# EAGLE library part TLW-124-06-T-S (library SAMTEC-Txx_By_element14_Batch_1)
LOW PROFILE HEADER
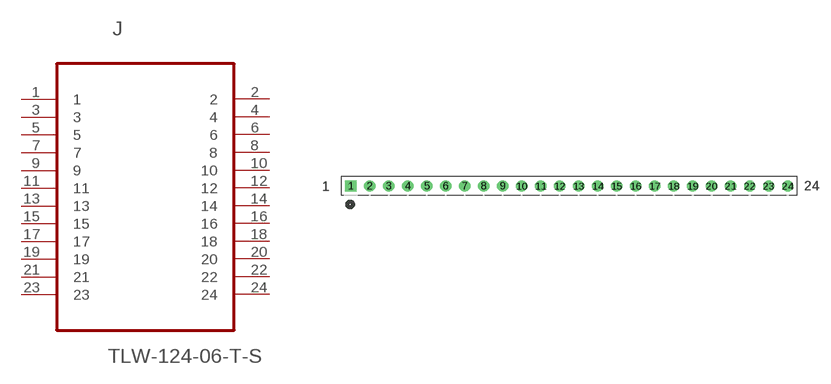
[diagram p286: symbol with the pads of SAMTEC_TLW-124-06-T-S; footprint SAMTEC_TLW-124-06-T-S]

Designator prefix J

## TLW-124-06-T-S (MPN: TLW-124-06-T-S; OC_FARNELL: -; OC_NEWARK: 12P0547; PACKAGE: LOW PROFILE HEADER, SINGLE ROW, 24 way; SUPPLIER: SAMTEC)  [SAMTEC_TLW-124-06-T-S]
1  1  pas
2  2  pas
3  3  pas
4  4  pas
5  5  pas
6  6  pas
7  7  pas
8  8  pas
9  9  pas
10  10  pas
11  11  pas
12  12  pas
13  13  pas
14  14  pas
15  15  pas
16  16  pas
17  17  pas
18  18  pas
19  19  pas
20  20  pas
21  21  pas
22  22  pas
23  23  pas
24  24  pas

## Footprint SAMTEC_TLW-124-06-T-S (pad centres in mm)
drill 1.016 square: 1 -58.42,0
drill 1.016: 2 -55.88,0; 3 -53.34,0; 4 -50.8,0; 5 -48.26,0; 6 -45.72,0; 7 -43.18,0; 8 -40.64,0; 9 -38.1,0; 10 -35.56,0; 11 -33.02,0; 12 -30.48,0; 13 -27.94,0; 14 -25.4,0; 15 -22.86,0; 16 -20.32,0; 17 -17.78,0; 18 -15.24,0; 19 -12.7,0; 20 -10.16,0; 21 -7.62,0; 22 -5.08,0; 23 -2.54,0; 24 0,0